# Altium footprint library Synthiam-new.PcbLib: 262 footprints (part 2 of 17)
Each footprint in its own frame and in the unit in brackets; x right, y up, seen from the top. Pads: shape width x height; smd on the part's side, far side on the other; paste and mask are expansions set on the pad; w line width, h text height; cw(c..) or ccw(c..) is an arc to the next point about the centre after c.
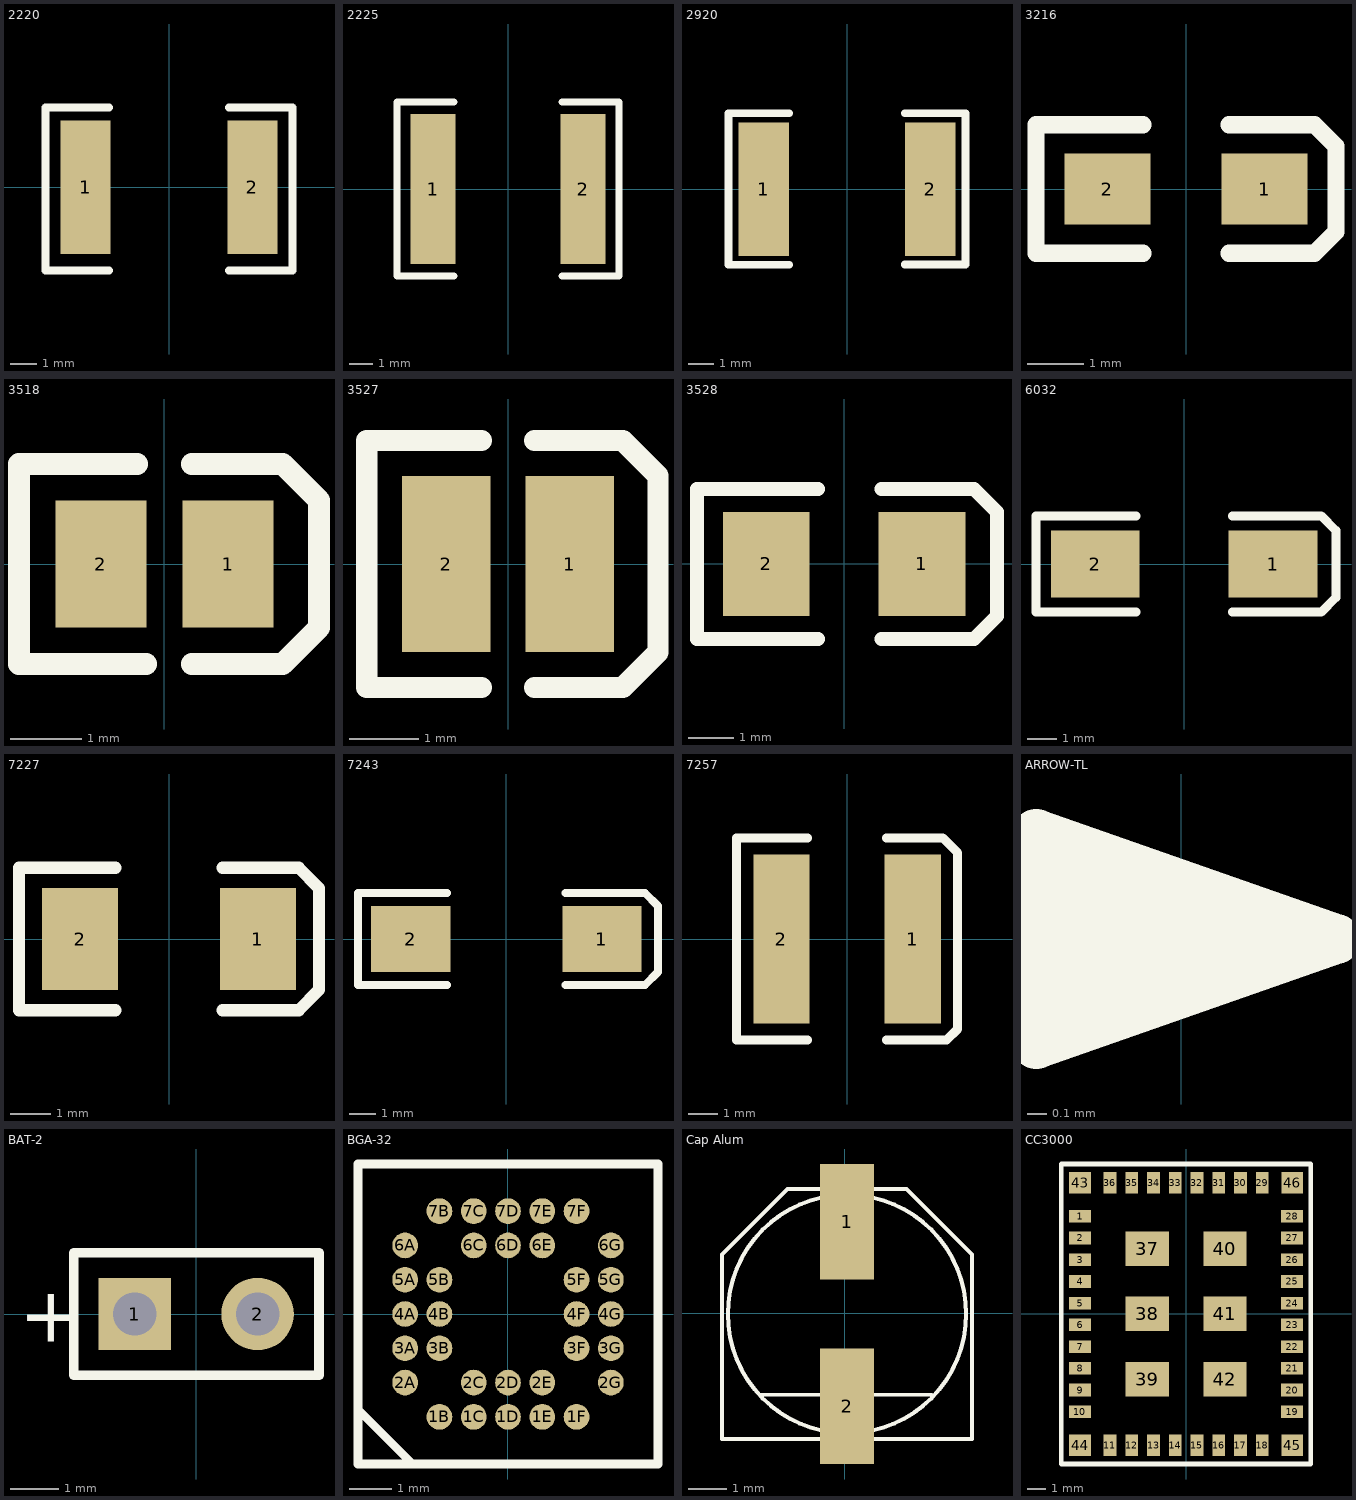
[diagram p1: the footprints below, top view; thin cyan lines are the x and y axes]

## 2220 [mil]
pads (2):
  rect 75x200 smd: 1(-125,0) 2(125,0)
Top Overlay:
  lines w12: -90,-125 -185,-125 -185,120 -90,120 ; 90,-125 185,-125 185,120 90,120

## 2225 [mil]
pads (2):
  rect 75x250 smd: 1(-125,0) 2(125,0)
Top Overlay:
  lines w12: -90,-145 -185,-145 -185,145 -90,145 ; 90,-145 185,-145 185,145 90,145

## 2920 [mm]
pads (2):
  rect 2x5.3 smd: 1(-3.3,0) 2(3.3,0)
Top Overlay:
  lines w0.305: -2.286,-3.005 -4.699,-3.005 -4.699,3.015 -2.286,3.015 ; 2.286,-2.99 4.699,-2.99 4.699,3.01 2.286,3.01

## 3216 [mil]
pads (2):
  rect 60x50 smd: 1(55,0) 2(-55,0)
Top Overlay:
  lines w12: -30,-45 -105,-45 -105,45 -30,45 ; 30,-45 90,-45 105,-30 105,30 90,45 30,45

## 3518 [mil]
pads (2):
  rect 50x70 smd: 1(35,0) 2(-35,0)
Top Overlay:
  lines w12: -15,55 -80,55 -80,-55 -10,-55 ; 15,-55 65,-55 85,-35 85,35 65,55 15,55

## 3527 [mil]
pads (2):
  rect 50x100 smd: 1(35,0) 2(-35,0)
Top Overlay:
  lines w12: -15,-70 -80,-70 -80,70 -15,70 ; 15,-70 65,-70 85,-50 85,50 65,70 15,70

## 3528 [mil]
pads (2):
  rect 75x90 smd: 1(67.5,0) 2(-67.5,0)
Top Overlay:
  lines w12: -22.5,-65 -127.5,-65 -127.5,65 -22.5,65 ; 32.5,-65 112.5,-65 132.5,-45 132.5,45 112.5,65 32.5,65

## 6032 [mil]
pads (2):
  rect 120x90 smd: 1(120,0) 2(-120,0)
Top Overlay:
  lines w12: -65,-65 -200,-65 -200,65 -65,65 ; 65,-65 185,-65 205,-45 205,45 185,65 65,65

## 7227 [mil]
pads (2):
  rect 75x100 smd: 1(87.5,0) 2(-87.5,0)
Top Overlay:
  lines w12: -52.5,-70 -147.5,-70 -147.5,70 -52.5,70 ; 52.5,-70 127.5,-70 147.5,-50 147.5,50 127.5,70 52.5,70

## 7243 [mil]
pads (2):
  rect 120x100 smd: 1(145,0) 2(-145,0)
Top Overlay:
  lines w12: -90,-70 -225,-70 -225,70 -90,70 ; 90,-70 210,-70 230,-50 230,50 210,70 90,70

## 7257 [mil]
pads (2):
  rect 75x225 smd: 1(87.5,0) 2(-87.5,0)
Top Overlay:
  lines w12: -52.5,-135 -147.5,-135 -147.5,135 -52.5,135 ; 52.5,-135 132.5,-135 147.5,-120 147.5,115 127.5,135 52.5,135

## ARROW-TL [mil]
Top Overlay:
  lines w10: -21,11 -21,-11 12,0 -16,8 -16,0 -5,0 ; -29,-21 31,0 -29,21 -29,-21

## BAT-2 [mm]
pads (2):
  rect 1.5x1.5 hole 0.9: 1(-1.27,0)
  round 1.5 hole 0.9: 2(1.27,0)
Top Overlay:
  lines w0.2: -2.54,-1.27 2.54,-1.27 2.54,1.27 -2.54,1.27 -2.54,-1.27
  text "+" at -3.67,-0.577 h1.15

## BGA-32 [mm]
pads (32):
  round 0.6 smd: 1B(-1.6,-2.4) 1C(-0.8,-2.4) 1D(0,-2.4) 1E(0.8,-2.4) 1F(1.6,-2.4) 2A(-2.4,-1.6) 2C(-0.8,-1.6) 2D(0,-1.6) 2E(0.8,-1.6) 2G(2.4,-1.6) 3A(-2.4,-0.8) 3B(-1.6,-0.8) 3F(1.6,-0.8) 3G(2.4,-0.8) 4A(-2.4,0) 4B(-1.6,0) 4F(1.6,0) 4G(2.4,0) 5A(-2.4,0.8) 5B(-1.6,0.8) 5F(1.6,0.8) 5G(2.4,0.8) 6A(-2.4,1.6) 6C(-0.8,1.6) 6D(0,1.6) 6E(0.8,1.6) 6G(2.4,1.6) 7B(-1.6,2.4) 7C(-0.8,2.4) 7D(0,2.4) 7E(0.8,2.4) 7F(1.6,2.4)
Top Overlay:
  lines w0.203: -3.5,-2.23 -2.23,-3.5 ; -3.5,-3.5 3.5,-3.5 3.5,3.5 -3.5,3.5 -3.5,-3.5

## Cap Alum [mm]
pads (2):
  rect 1.4x3 smd: 1(0.06,2.381) 2(0.06,-2.419)
Top Overlay:
  circle w0.102: c0.06,-0.019 r3.1
  lines w0.102: -2.19,-2.119 2.26,-2.119 ; -0.89,-3.269 -3.19,-3.269 ; -0.89,-2.969 cw(c0.06,-0.019) -0.89,2.931 ; -0.89,3.231 -1.49,3.231 ; 1.01,-3.269 3.31,-3.269 ; 1.01,-2.969 ccw(c0.06,-0.019) 1.01,2.931 ; 1.01,3.231 1.61,3.231 ; -3.19,-3.269 -3.19,1.531 ; -3.19,-3.269 3.31,-3.269 ; -3.19,-3.269 -3.19,1.531 ; -3.19,1.531 -1.49,3.231 ; -3.19,1.531 -1.49,3.231 ; -1.49,3.231 1.61,3.231 ; 1.61,3.231 3.31,1.531 ; 1.61,3.231 3.31,1.531 ; 3.31,-3.269 3.31,1.531 ; 3.31,-3.269 3.31,1.531

## CC3000 [mm]
pads (46):
  rect 1.2x0.7 smd: 1(-5.853,5.401) 2(-5.853,4.197) 3(-5.853,2.997) 4(-5.853,1.797) 5(-5.853,0.597) 6(-5.853,-0.603) 7(-5.853,-1.803) 8(-5.853,-3.003) 9(-5.853,-4.203) 10(-5.857,-5.401) 19(5.853,-5.401) 20(5.857,-4.203) 21(5.857,-3.003) 22(5.857,-1.803) 23(5.857,-0.603) 24(5.857,0.597) 25(5.857,1.797) 26(5.857,2.997) 27(5.857,4.197) 28(5.857,5.401)
  rect 0.7x1.2 smd: 11(-4.201,-7.253) 12(-2.997,-7.253) 13(-1.797,-7.253) 14(-0.597,-7.253) 15(0.603,-7.253) 16(1.803,-7.253) 17(3.003,-7.253) 18(4.201,-7.257) 29(4.201,7.243) 30(3.003,7.247) 31(1.803,7.247) 32(0.603,7.247) 33(-0.597,7.247) 34(-1.797,7.247) 35(-2.997,7.247) 36(-4.201,7.247)
  rect 2.4x1.9 smd: 37(-2.15,3.6) 38(-2.15,0) 39(-2.15,-3.6) 40(2.15,3.6) 41(2.15,0) 42(2.15,-3.6)
  rect 1.2x1.2 smd: 43(-5.855,7.247) 44(-5.855,-7.253) 45(5.857,-7.255) 46(5.857,7.245)
Top Overlay:
  lines w0.254: -6.89,8.28 -6.89,-8.285 6.875,-8.285 ; -6.88,8.28 6.885,8.28 6.885,-8.27